# EAGLE library part ATA6560 (library TRN_Open_Servo)
ATA6560 High-Speed CAN Transceiver with Standby Mode CAN FD Ready General Description The ATA6560/1 is a high-speed CAN transceiver that provides an interface between a Controller Area Net-work (CAN) protocol controller and the physical two-wire CAN bus. The transceiver is designed for high-speed (up to 5 Mbps) CAN applications in the automotive industry, providing differential transmit and receive capability to (a microcontroller with) a CAN protocol controller. If offers improved Electromagnetc Compatibility (EMC) and ESD performance, as well as features such as: Ideal passive behavior to CAN bus when the supply is off Direct interfacing to microcontrollers with supply voltages from 3V to 5V Three operating modes, together with the dedicated fail-safe features, make the ATA6560/1 an exellent choice for all types of high-speed CAN networks, expecially in nodes requiring a Low-Power mode with wake-up via the CAN bus. Features Fully ISO 11898-2, ISO 11898-5 and SAE J2284 Compliant CAN FD Ready Communication Speed up to 5Mbps Low Electromagnetic Emission (EME) and High Electromagnetic Immunity (EMI) Differential Reciever with Wide Common-Mode Range ATA6560: Silent Mode (Reciever Only) Remote Wake-Up Capability via CAN Bus Functional Behavior Predictable under All Supply Conditions Transceiver Disengages from the Bus when Not Powered Up RXD Recessive Clamping Detection High Electrostatic Discharge (ESD) Handling Capability on the Bus Pins Bus Pins Protected Against Transients in Automotive Environments Transmit Data (TXD) Dominant Time-Out Function Undervoltage Detection on Vcc and VIO Pins CANH/CANL Short-Circuit and Overtemperature Protected Qualified According to AEC-Q100: Only ATA6560-GAQW, ATA6560-GBQW ATA6561-GAQW, ATA6561-GBQW Packages: SOIC-8, VDFN-8 with Wettable Flanks (Moisture Sensitivity Level 1) Applications Classical CAN and CAN FB networks in the following applications: Automotive Industrial Aerospace Medical Consumer 2018 Microchip Technology Inc. Document Reference No.: DS20005991A
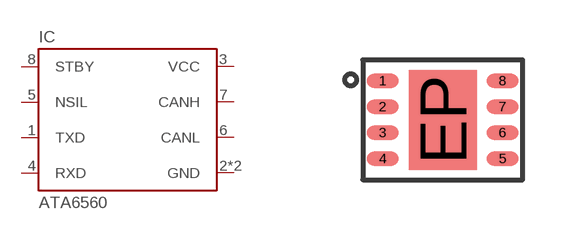
[diagram p4: symbol with the pads of VDFN-8-EP; footprint VDFN-8-EP]

Designator prefix IC

## ATA6560GB  [VDFN-8-EP]
1  TXD  in
2  GND  pwr
3  VCC  pwr
4  RXD  out
5  NSIL  in
6  CANL
7  CANH
8  STBY  in
EP  GND  pwr

## Footprint VDFN-8-EP (pad centres in mm)
8-Lead Very Thin Plastic Dual Flat, No Lead Package (Q8B)
smd 0.8 x 0.35: 1 -1.5,0.975; 2 -1.5,0.325; 3 -1.5,-0.325; 4 -1.5,-0.975; 5 1.5,-0.975; 6 1.5,-0.325; 7 1.5,0.325; 8 1.5,0.975
smd 1.7 x 2.5: EP 0,0